# Altium footprint library gat562 mesh module.PcbLib: 1 footprints
Each footprint in its own frame and in the unit in brackets; x right, y up, seen from the top. Pads: shape width x height; smd on the part's side, far side on the other; paste and mask are expansions set on the pad; w line width, h text height; cw(c..) or ccw(c..) is an arc to the next point about the centre after c.
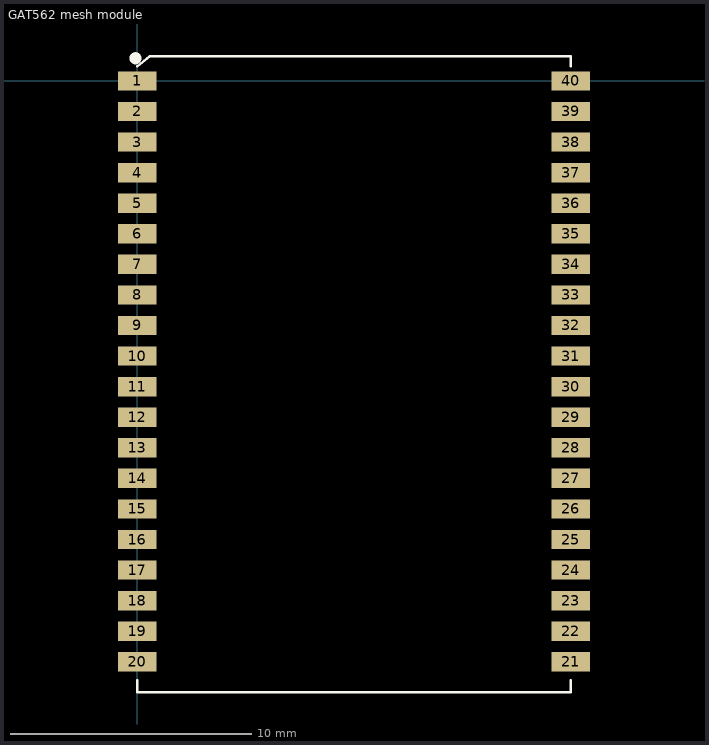
[diagram p0: the footprint, top view; thin cyan lines are the x and y axes]

## GAT562 mesh module [mm]
pads (40):
  rect 1.6x0.8 smd: 1(0,0) 2(0,-1.27) 3(0,-2.54) 4(0,-3.81) 5(0,-5.08) 6(0,-6.35) 7(0,-7.62) 8(0,-8.89) 9(0,-10.16) 10(0,-11.43) 11(0,-12.7) 12(0,-13.97) 13(0,-15.24) 14(0,-16.51) 15(0,-17.78) 16(0,-19.05) 17(0,-20.32) 18(0,-21.59) 19(0,-22.86) 20(0,-24.13) 21(18,-24.13) 22(18,-22.86) 23(18,-21.59) 24(18,-20.32) 25(18,-19.05) 26(18,-17.78) 27(18,-16.51) 28(18,-15.24) 29(18,-13.97) 30(18,-12.7) 31(18,-11.43) 32(18,-10.16) 33(18,-8.89) 34(18,-7.62) 35(18,-6.35) 36(18,-5.08) 37(18,-3.81) 38(18,-2.54) 39(18,-1.27) 40(18,0)
Top Overlay:
  circle w0.3: c-0.076,0.94 r0.1
  lines w0.1: 0,-24.892 0,-25.392 18,-25.392 18,-24.892 ; 0,0.6 0.508,1.016 18,1.016 18,0.6
Multi-Layer:
  pour cut-out: 14.072,0.991 14.072,-1.397 16.332,-1.397 16.332,1.041 14.173,1.041 14.122,0.991
3D body: height 0.95, standoff 0, extent 0,-24.181 17.983,0.102